# EAGLE library part 679309124022 (library Wurth_Elektronik_Electromechanic_Wire_to_Board_Connectors_rev15c)
WR-WTB 1.50mm SMT Male Vertical Shrouded Header, 9 Pins=>Code : Con_WTB_1.50_PCB_SMT_679309124022 <http://katalog.we-online.de/media/thumbs2/eican/thb_Con_WTB_1.50_PCB_SMT_6793xx124022_pf2.jpg> Details see: http://katalog.we-online.de/en/em/679_3xx_124_022 Created 2014-06-06, Karrer Zheng 2014 (C) Würth Elektronik
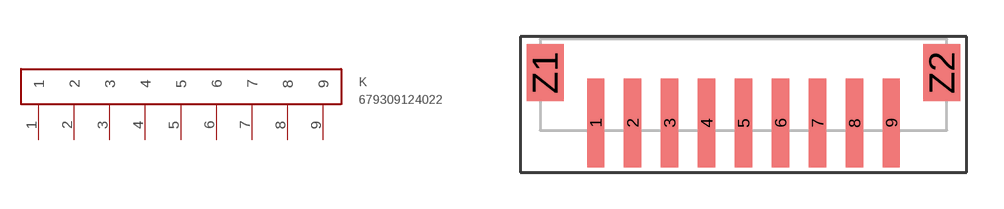
[diagram p47: symbol with the pads of 679309124022; footprint 679309124022]

Designator prefix K

## 679309124022  [679309124022]
1  1
2  2
3  3
4  4
5  5
6  6
7  7
8  8
9  9

## Footprint 679309124022 (pad centres in mm)
WR-WTB 1.50mm SMT Male Vertical Shrouded Header, 9 Pins
smd 0.7 x 3.6: 1 -6,0; 2 -4.5,0; 3 -3,0; 4 -1.5,0; 5 0,0; 6 1.5,0; 7 3,0; 8 4.5,0; 9 6,0
smd 1.5 x 2.3: Z1 -8.05,2.05; Z2 8.05,2.05